# EAGLE library part RMX-GNS-TM (library linx)
RMX-GNS-TM GNSS Reciver Module
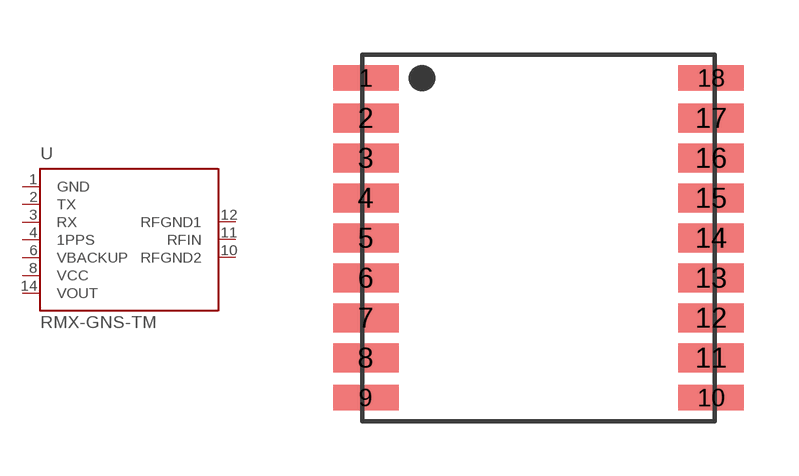
[diagram p5: symbol with the pads of RMX-GNSS-TM; footprint RMX-GNSS-TM]

Designator prefix -

## RMX-GNS-TM  [RMX-GNSS-TM]
1  GND  sup
2  TX  out
3  RX  in
4  1PPS  out
6  VBACKUP  sup
8  VCC  sup
10  RFGND2  sup
11  RFIN  in
12  RFGND1  sup
14  VOUT  out

## Footprint RMX-GNSS-TM (pad centres in mm)
smd 1.8 x 0.7: 1 -4.75,4.4; 9 -4.75,-4.4; 10 4.75,-4.4; 18 4.75,4.4
smd 1.8 x 0.8: 2 -4.75,3.3; 3 -4.75,2.2; 4 -4.75,1.1; 5 -4.75,0; 6 -4.75,-1.1; 7 -4.75,-2.2; 8 -4.75,-3.3; 11 4.75,-3.3; 12 4.75,-2.2; 13 4.75,-1.1; 14 4.75,0; 15 4.75,1.1; 16 4.75,2.2; 17 4.75,3.3